# EAGLE library part AX5031 (library axsem_v4-11)
AXSEM high performance transmitter for 400-470 MHz and 800-940 MHz 1 kbps to 200 kbps FSK 1 kbps to 600 kbps ASK & PSK 14 dBm Pout @ 868 MHz 16 dBm Pout @ 433 MHz Wire mode Raw mode HDLC mode 256 bit FIFO
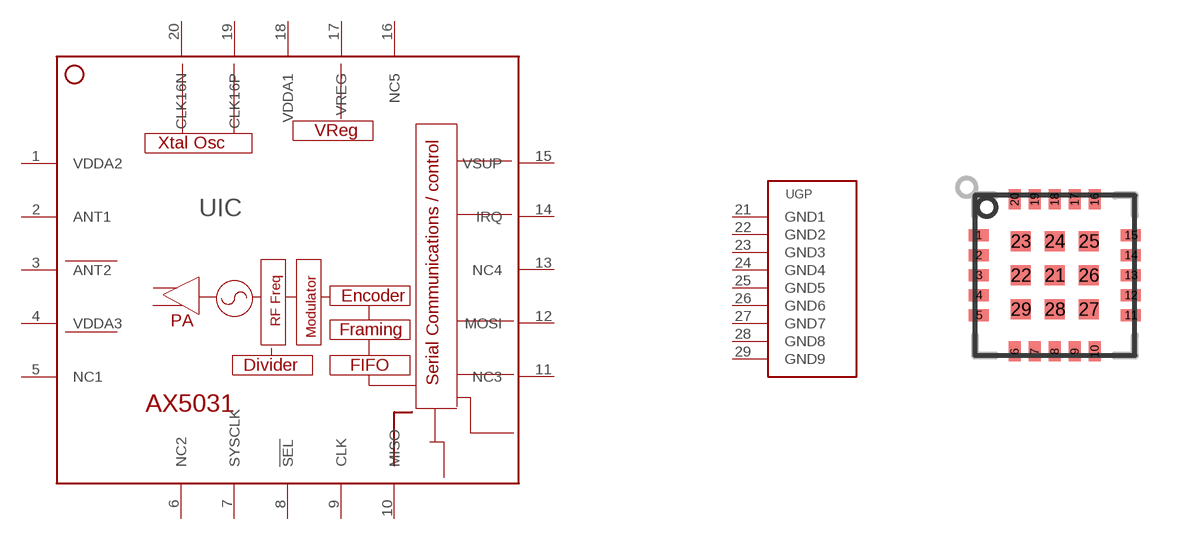
[diagram p1: symbol with the pads of QFN20; footprint QFN20]

Designator prefix U; gates GP=GROUNDPAD IC=AX5031

## AX5031  [QFN20]
1  IC:VDDA2  pwr
2  IC:ANT1  pas
3  IC:ANT2  pas
4  IC:VDDA3  pwr
5  IC:NC1  nc
6  IC:NC2  nc
7  IC:SYSCLK  out
8  IC:!SEL  in
9  IC:CLK  in
10  IC:MISO  out
11  IC:NC3  nc
12  IC:MOSI  in
13  IC:NC4  nc
14  IC:IRQ  out
15  IC:VSUP  pwr
16  IC:NC5  nc
17  IC:VREG  pwr
18  IC:VDDA1  pwr
19  IC:CLK16P  pas
20  IC:CLK16N  pas
21  GP:GND1  pwr
22  GP:GND2  pwr
23  GP:GND3  pwr
24  GP:GND4  pwr
25  GP:GND5  pwr
26  GP:GND6  pwr
27  GP:GND7  pwr
28  GP:GND8  pwr
29  GP:GND9  pwr

## Footprint QFN20 (pad centres in mm)
smd 0.5 x 0.3: 1 -1.9,1; 2 -1.9,0.5; 3 -1.9,0; 4 -1.9,-0.5; 5 -1.9,-1; 11 1.9,-1; 12 1.9,-0.5; 13 1.9,0; 14 1.9,0.5; 15 1.9,1
smd 0.3 x 0.5: 6 -1,-1.9; 7 -0.5,-1.9; 8 0,-1.9; 9 0.5,-1.9; 10 1,-1.9; 16 1,1.9; 17 0.5,1.9; 18 0,1.9; 19 -0.5,1.9; 20 -1,1.9
smd 0.5 x 0.5: 21 0,0; 22 -0.85,0; 23 -0.85,0.85; 24 0,0.85; 25 0.85,0.85; 26 0.85,0; 27 0.85,-0.85; 28 0,-0.85; 29 -0.85,-0.85